# Altium schematic symbol library LM2575S-5.0.SchLib: 1 symbol
Pins are listed as number, name and electrical type; pins without a type are passive.

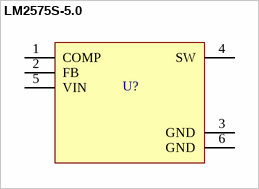
[diagram p0: symbol LM2575S-5.0]

## LM2575S-5.0
designator U?
pins: 1 COMP, 2 FB, 3 GND (power), 4 SW, 5 VIN, 6 GND (power)